# EAGLE library part K155ID1 (library nixie_ticker)
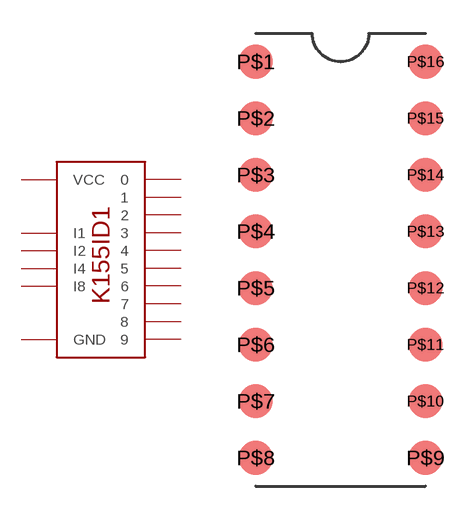
[diagram p1: symbol with the pads of DIP-16_SMD; footprint DIP-16_SMD]

Designator prefix -

## K155ID1  [DIP-16_SMD]
P$1  8
P$2  9
P$3  I1
P$4  I8
P$5  VCC
P$6  I2
P$7  I4
P$8  2
P$9  3
P$10  7
P$11  6
P$12  GND
P$13  4
P$14  5
P$15  1
P$16  0

## Footprint DIP-16_SMD (pad centres in mm)
smd 1.524 x 1.524: P$1 -3.81,8.89; P$2 -3.81,6.35; P$3 -3.81,3.81; P$4 -3.81,1.27; P$5 -3.81,-1.27; P$6 -3.81,-3.81; P$7 -3.81,-6.35; P$8 -3.81,-8.89; P$9 3.81,-8.89; P$10 3.81,-6.35; P$11 3.81,-3.81; P$12 3.81,-1.27; P$13 3.81,1.27; P$14 3.81,3.81; P$15 3.81,6.35; P$16 3.81,8.89